# Altium schematic symbol library LM5575MH.Schlib: 1 symbol
Pins are listed as number, name and electrical type; pins without a type are passive.

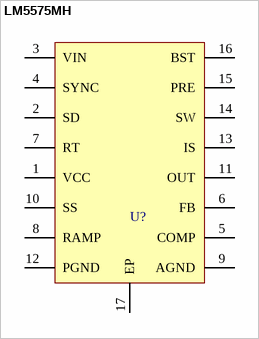
[diagram p0: symbol LM5575MH]

## LM5575MH
designator U?
SIMPLE SWITCHER 75 V, 1.5 A Step-Down Switching Regulator
pins: 1 VCC, 2 SD, 3 VIN, 4 SYNC, 5 COMP, 6 FB, 7 RT, 8 RAMP, 9 AGND, 10 SS, 11 OUT, 12 PGND, 13 IS, 14 SW, 15 PRE, 16 BST, 17 EP